# Altium footprint library SM_DIODE_0603.PcbLib: 1 footprints
Each footprint in its own frame and in the unit in brackets; x right, y up, seen from the top. Pads: shape width x height; smd on the part's side, far side on the other; paste and mask are expansions set on the pad; w line width, h text height; cw(c..) or ccw(c..) is an arc to the next point about the centre after c.
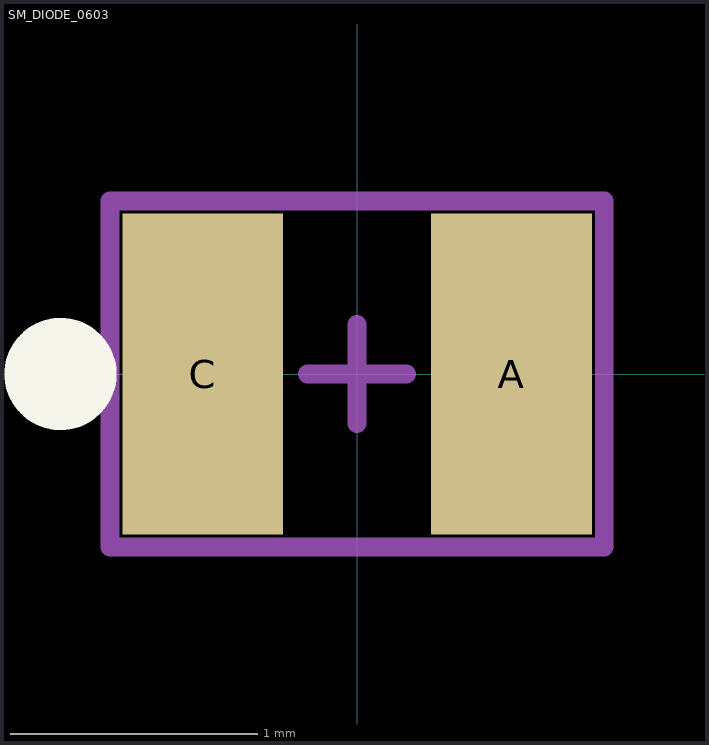
[diagram p0: the footprint, top view; thin cyan lines are the x and y axes]

## SM_DIODE_0603 [mm]
pads (2):
  rect 0.65x1.3 smd paste-0.05: A(0.625,0) C(-0.625,0)
Top Overlay:
  circle w0.254: c-1.2,0 r0.1
Mechanical 15:
  lines w0.076: -0.2,0 0.2,0 ; 0,-0.2 0,0.2 ; -1,-0.7 -1,-0.5 -1,0.7 1,0.7 1,-0.7 -1,-0.7
3D body: height 0.5, standoff 0, extent -0.8,-0.5 0.8,0.5